# Altium schematic symbol library 640456-4.SchLib: 1 symbol
Pins are listed as number, name and electrical type; pins without a type are passive.

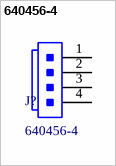
[diagram p0: symbol 640456-4]

## 640456-4
designator J?
CONN HEADER VERT 4POS 2.54MM; MFR: TE Connectivity AMP Connectors; No. of Positions: 4; No. of Rows: 1; PN: 640456-4; ComponentLink1Description: Datasheet; ComponentLink1URL: https://www.te.com/commerce/DocumentDelivery/DDEController?Action=srchrtrv&DocNm=640456&DocType=Customer+Drawing&DocLang=English; Supplier 1: Allied Electronics; Supplier Part Number 1: 70083644
footprint 640456-4
pins: 1, 2, 3, 4